# Altium footprint library STC89C52RC_2021-12-16.PcbLib: 1 footprints
Each footprint in its own frame and in the unit in brackets; x right, y up, seen from the top. Pads: shape width x height; smd on the part's side, far side on the other; paste and mask are expansions set on the pad; w line width, h text height; cw(c..) or ccw(c..) is an arc to the next point about the centre after c.
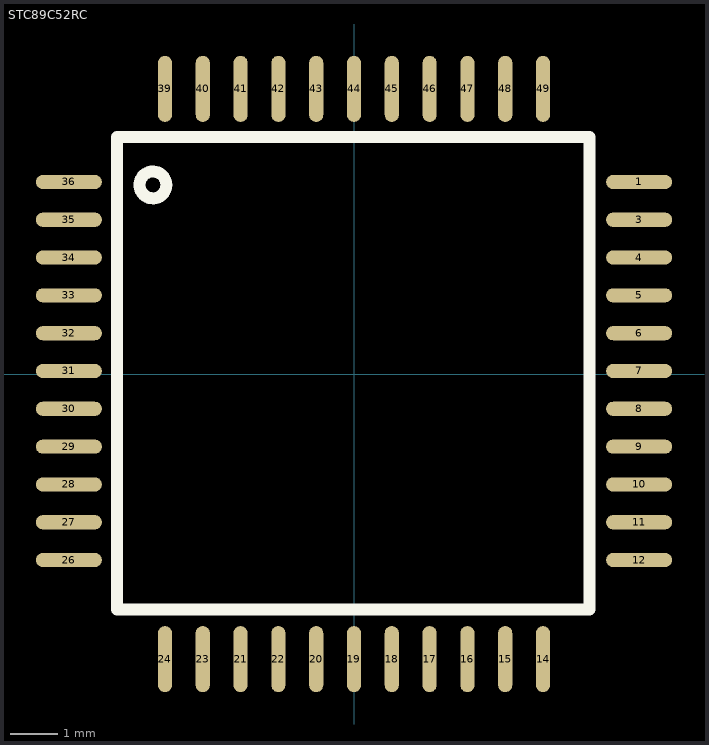
[diagram p0: the footprint, top view; thin cyan lines are the x and y axes]

## STC89C52RC [mm]
pads (44):
  oval 1.4x0.3 smd: 1(6.032,4.063) 3(6.032,3.263) 4(6.032,2.463) 5(6.032,1.663) 6(6.032,0.863) 7(6.032,0.064) 8(6.032,-0.736) 9(6.032,-1.536) 10(6.032,-2.336) 11(6.032,-3.136) 12(6.032,-3.936) 26(-6.032,-3.936) 27(-6.032,-3.136) 28(-6.032,-2.336) 29(-6.032,-1.536) 30(-6.032,-0.736) 31(-6.032,0.064) 32(-6.032,0.863) 33(-6.032,1.663) 34(-6.032,2.464) 35(-6.032,3.263) 36(-6.032,4.064)
  oval 0.3x1.4 smd: 14(3.999,-6.032) 15(3.199,-6.032) 16(2.399,-6.032) 17(1.599,-6.032) 18(0.799,-6.032) 19(-0.001,-6.032) 20(-0.801,-6.032) 21(-2.401,-6.032) 22(-1.601,-6.032) 23(-3.201,-6.032) 24(-4,-6.032) 39(-4,6.032) 40(-3.199,6.032) 41(-2.4,6.032) 42(-1.599,6.032) 43(-0.8,6.032) 44(0,6.032) 45(0.801,6.032) 46(1.6,6.032) 47(2.401,6.032) 48(3.2,6.032) 49(4,6.032)
Top Overlay:
  circle w0.254: c-4.255,4 r0.284
  lines w0.254: -5.016,-4.983 -5.016,5.016 4.983,5.016 4.983,-4.983 -5.016,-4.983
Bottom Overlay:
  lines w0.254: -5.397,-5.403 -5.397,5.397 5.403,5.397 5.403,-5.403 -5.397,-5.403